# EAGLE library part 87368-32 (library con-molex-milli-grid)
RECEPTACAL
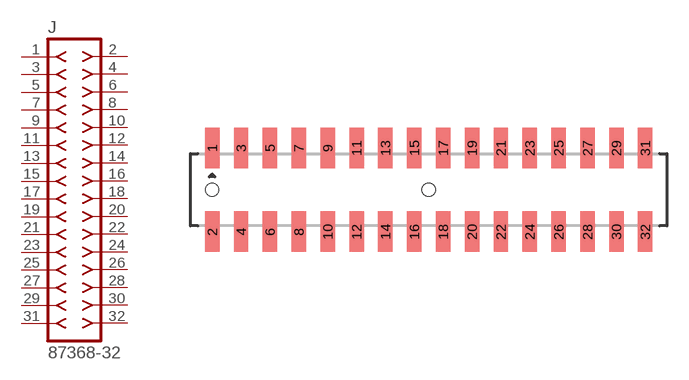
[diagram p195: symbol with the pads of 87368-32; footprint 87368-32]

Designator prefix J

## 87368-32  [87368-32]
1  1  pas
2  2  pas
3  3  pas
4  4  pas
5  5  pas
6  6  pas
7  7  pas
8  8  pas
9  9  pas
10  10  pas
11  11  pas
12  12  pas
13  13  pas
14  14  pas
15  15  pas
16  16  pas
17  17  pas
18  18  pas
19  19  pas
20  20  pas
21  21  pas
22  22  pas
23  23  pas
24  24  pas
25  25  pas
26  26  pas
27  27  pas
28  28  pas
29  29  pas
30  30  pas
31  31  pas
32  32  pas

## Footprint 87368-32 (pad centres in mm)
RECEPTACAL SMD Dual Row, Side Entry
smd 1 x 2.8: 1 -15,2.9; 2 -15,-2.9; 3 -13,2.9; 4 -13,-2.9; 5 -11,2.9; 6 -11,-2.9; 7 -9,2.9; 8 -9,-2.9; 9 -7,2.9; 10 -7,-2.9; 11 -5,2.9; 12 -5,-2.9; 13 -3,2.9; 14 -3,-2.9; 15 -1,2.9; 16 -1,-2.9; 17 1,2.9; 18 1,-2.9; 19 3,2.9; 20 3,-2.9; 21 5,2.9; 22 5,-2.9; 23 7,2.9; 24 7,-2.9; 25 9,2.9; 26 9,-2.9; 27 11,2.9; 28 11,-2.9; 29 13,2.9; 30 13,-2.9; 31 15,2.9; 32 15,-2.9
hole 0.914 at -15,0
hole 0.914 at 0,0